# Altium schematic symbol library DAP_Interfaces.SchLib: 5 symbols
Pins are listed as number, name and electrical type; pins without a type are passive.

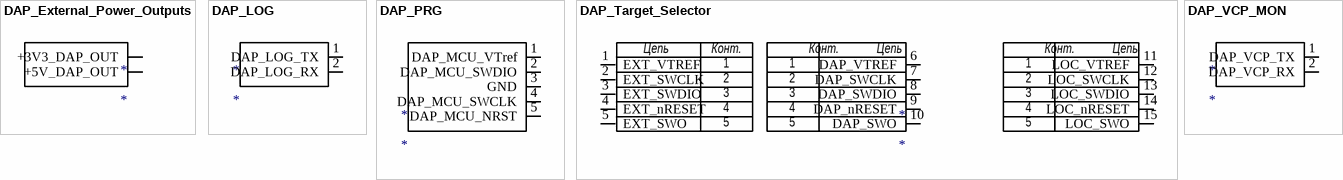
[diagram p0: symbols DAP_External_Power_Outputs to DAP_VCP_MON]

## DAP_External_Power_Outputs
designator *
pins: 1 +3V3_DAP_OUT, 2 +5V_DAP_OUT

## DAP_LOG
designator *
footprint DAP_LOG
pins: 1 DAP_LOG_TX, 2 DAP_LOG_RX

## DAP_PRG
designator *
footprint DAP_PRG
pins: 1 DAP_MCU_VTref, 2 DAP_MCU_SWDIO, 3 GND, 4 DAP_MCU_SWCLK, 5 DAP_MCU_NRST

## DAP_Target_Selector
designator *
pins: 1 EXT_VTREF, 2 EXT_SWCLK, 3 EXT_SWDIO, 4 EXT_nRESET, 5 EXT_SWO, 6 DAP_VTREF, 7 DAP_SWCLK, 8 DAP_SWDIO, 9 DAP_nRESET, 10 DAP_SWO, 11 LOC_VTREF, 12 LOC_SWCLK, 13 LOC_SWDIO, 14 LOC_nRESET, 15 LOC_SWO
text: Цепь; Конт.

## DAP_VCP_MON
designator *
footprint DAP_VCP_MON
pins: 1 DAP_VCP_TX, 2 DAP_VCP_RX